# EAGLE library part ALLEGRO-ACS723 (library ClintonLib)
Allegro Galvanically Isolated Hall Effect Current Sensor ACS723LLCTR-10AU-T <https://www.digikey.com/product-detail/en/allegro-microsystems-llc/ACS723LLCTR-10AU-T/620-1643-1-ND/4948879> - 400 mV/A, 10A max, 5V supply
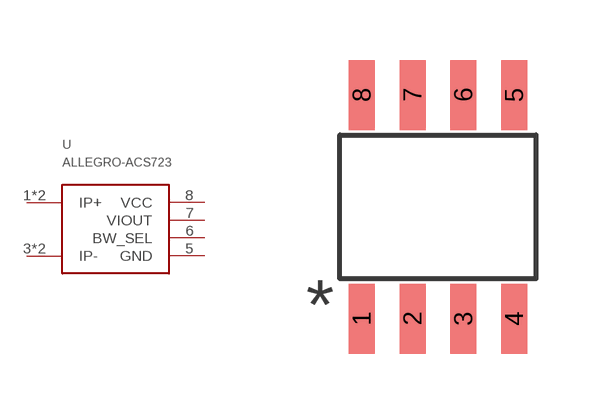
[diagram p12: symbol with the pads of ALLEGRO-ACS723; footprint ALLEGRO-ACS723]

Designator prefix -

## ALLEGRO-ACS723  [ALLEGRO-ACS723]
1  IP+
2  IP+
3  IP-
4  IP-
5  GND
6  BW_SEL
7  VIOUT
8  VCC

## Footprint ALLEGRO-ACS723 (pad centres in mm)
smd 0.65 x 1.75: 1 -1.905,-2.8; 2 -0.635,-2.8; 3 0.635,-2.8; 4 1.905,-2.8; 5 1.905,2.8; 6 0.635,2.8; 7 -0.635,2.8; 8 -1.905,2.8